# EAGLE library part 8301AS (library 0000 - @rsandor parts)
Large Red 3-digit 7-Segment Display.
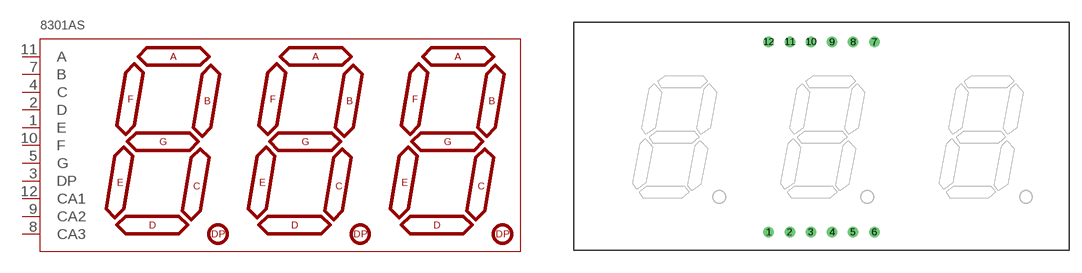
[diagram p0: symbol with the pads of 8301AS; footprint 8301AS]

Designator prefix -

## 8301AS  [8301AS]
1  E
2  D
3  DP
4  C
5  G
7  B
8  CA3
9  CA2
10  F
11  A
12  CA1

## Footprint 8301AS (pad centres in mm)
drill 0.75: 1 -6.35,-11.43; 2 -3.81,-11.43; 3 -1.27,-11.43; 4 1.27,-11.43; 5 3.81,-11.43; 6 6.35,-11.43; 7 6.35,11.43; 8 3.81,11.43; 9 1.27,11.43; 10 -1.27,11.43; 11 -3.81,11.43; 12 -6.35,11.43